# Altium schematic symbol library Rosenberger.SchLib: 1 symbol
Pins are listed as number, name and electrical type; pins without a type are passive.

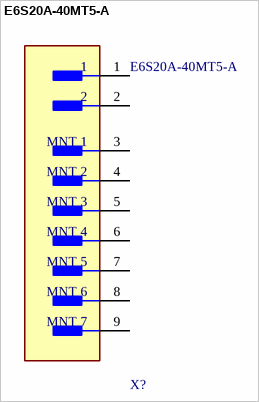
[diagram p0: symbol E6S20A-40MT5-A]

## E6S20A-40MT5-A
designator X?
H-MTD right angle plug PCB w. housing
footprint FP-E6S20A-40MT5-A-MFG
pins: 1, 2, 3 MNT 1, 4 MNT 2, 5 MNT 3, 6 MNT 4, 7 MNT 5, 8 MNT 6, 9 MNT 7